# EAGLE library part ADT7420 (library FM_transmitter)
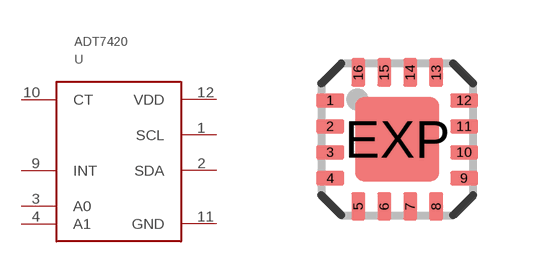
[diagram p12: symbol with the pads of LFCSP-16; footprint LFCSP-16]

Designator prefix -

## ADT7420  [LFCSP-16]
1  SCL
2  SDA
3  A0
4  A1
9  INT
10  CT
11  GND
12  VDD

## Footprint LFCSP-16 (pad centres in mm)
smd 0.7 x 0.35: 1 -1.675,0.975; 2 -1.675,0.325; 3 -1.675,-0.325; 4 -1.675,-0.975; 9 1.675,-0.975; 10 1.675,-0.325; 11 1.675,0.325; 12 1.675,0.975
smd 0.35 x 0.7: 5 -0.975,-1.675; 6 -0.325,-1.675; 7 0.325,-1.675; 8 0.975,-1.675; 13 0.975,1.675; 14 0.325,1.675; 15 -0.325,1.675; 16 -0.975,1.675
smd 2.1 x 2.1: EXP 0,0